# EAGLE library part 6DOFIMU (library Controle)
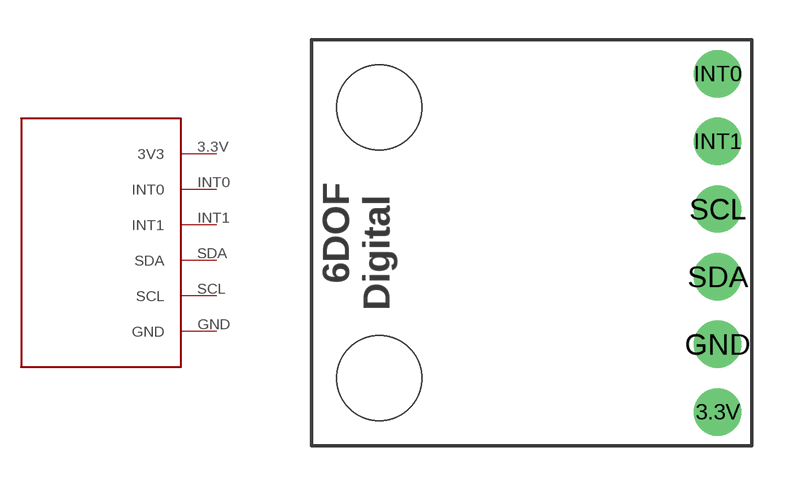
[diagram p0: symbol with the pads of 6DOFIMU; footprint 6DOFIMU]

Designator prefix -

## 6DOFIMU  [6DOFIMU]
3.3V  3V3  sup
GND  GND  sup
INT0  INT0
INT1  INT1
SCL  SCL
SDA  SDA

## Footprint 6DOFIMU (pad centres in mm)
drill 0.8 pad 1.778 round: 3.3V 0,-6.35; GND 0,-3.81; INT0 0,6.35; INT1 0,3.81; SCL 0,1.27; SDA 0,-1.27
hole 3.2 at -12.7,5.08
hole 3.2 at -12.7,-5.08